# Altium integrated library SE878K3-A.IntLib: 1 symbol
Pins are listed as number, name and electrical type; pins without a type are passive.

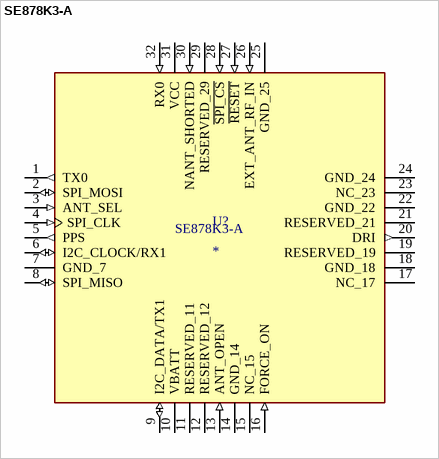
[diagram p0: symbol SE878K3-A]

## SE878K3-A
designator U?
GNSS L1 Antenna module (GPS, Galileo, Glonass, BeiDou); MF: Telit; MP: SE878K3-A; SnapEDA_Link: https://www.snapeda.com/parts/SE878K3-A/Telit/view-part/?ref=snap; Value: *; Check_prices: https://www.snapeda.com/parts/SE878K3-A/Telit/view-part/?ref=eda; Availability: Not in stock; Price: None; Package: NON-STANDARD-32 Telit
footprint XCVR_SE878K3-A
pins: 1 TX0 (out), 2 SPI_MOSI (io), 3 ANT_SEL (in), 4 SPI_CLK (in), 5 PPS (out), 6 I2C_CLOCK/RX1 (io), 7 GND_7 (power), 8 SPI_MISO (io), 9 I2C_DATA/TX1 (io), 10 VBATT (power), 11 RESERVED_11, 12 RESERVED_12, 13 ANT_OPEN (in), 14 GND_14 (power), 15 NC_15, 16 FORCE_ON (in), 17 NC_17, 18 GND_18 (power), 19 RESERVED_19, 20 DRI (out), 21 RESERVED_21, 22 GND_22 (power), 23 NC_23, 24 GND_24 (power), 25 GND_25 (power), 26 EXT_ANT_RF_IN (in), 27 ~{RESET} (in), 28 ~{SPI_CS} (in), 29 RESERVED_29, 30 NANT_SHORTED (in), 31 VCC (power), 32 RX0 (in)